# Altium footprint library Micron.PcbLib: 2 footprints
Each footprint in its own frame and in the unit in brackets; x right, y up, seen from the top. Pads: shape width x height; smd on the part's side, far side on the other; paste and mask are expansions set on the pad; w line width, h text height; cw(c..) or ccw(c..) is an arc to the next point about the centre after c.
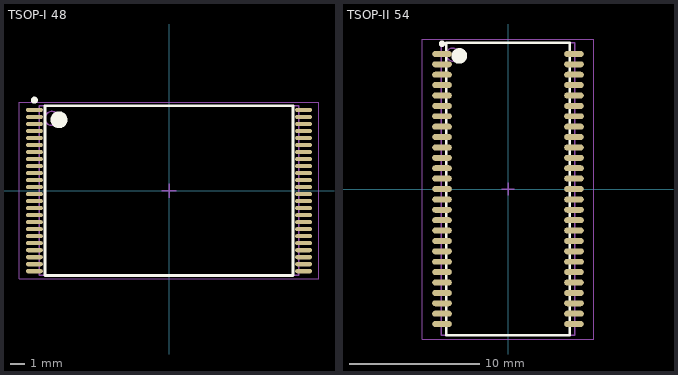
[diagram p0: the footprints below, top view; thin cyan lines are the x and y axes]

## TSOP-I 48 [mm] "TSSOP, 48-Leads, Body 12.00x18.40mm, Pitch 0.50mm, IPC Medium Density"
height 1.2
pads (48):
  oval 1.2x0.3 smd: 1(-9.6,5.75) 2(-9.6,5.25) 3(-9.6,4.75) 4(-9.6,4.25) 5(-9.6,3.75) 6(-9.6,3.25) 7(-9.6,2.75) 8(-9.6,2.25) 9(-9.6,1.75) 10(-9.6,1.25) 11(-9.6,0.75) 12(-9.6,0.25) 13(-9.6,-0.25) 14(-9.6,-0.75) 15(-9.6,-1.25) 16(-9.6,-1.75) 17(-9.6,-2.25) 18(-9.6,-2.75) 19(-9.6,-3.25) 20(-9.6,-3.75) 21(-9.6,-4.25) 22(-9.6,-4.75) 23(-9.6,-5.25) 24(-9.6,-5.75) 25(9.6,-5.75) 26(9.6,-5.25) 27(9.6,-4.75) 28(9.6,-4.25) 29(9.6,-3.75) 30(9.6,-3.25) 31(9.6,-2.75) 32(9.6,-2.25) 33(9.6,-1.75) 34(9.6,-1.25) 35(9.6,-0.75) 36(9.6,-0.25) 37(9.6,0.25) 38(9.6,0.75) 39(9.6,1.25) 40(9.6,1.75) 41(9.6,2.25) 42(9.6,2.75) 43(9.6,3.25) 44(9.6,3.75) 45(9.6,4.25) 46(9.6,4.75) 47(9.6,5.25) 48(9.6,5.75)
Top Overlay:
  circle w0.25: c-9.6,6.45 r0.125
  circle w0.6: c-7.85,5.05 r0.3
  lines w0.2: -8.85,-6.05 -8.85,6.05 8.85,6.05 8.85,-6.05 -8.85,-6.05
Mechanical 13:
  circle w0.1: c-8.35,5.15 r0.5
  lines w0.1: -9.25,-6.05 -9.25,6.05 9.25,6.05 9.25,-6.05 -9.25,-6.05
Mechanical 15:
  lines w0.05: -10.7,-6.3 -10.7,6.3 10.7,6.3 10.7,-6.3 -10.7,-6.3
  lines w0.1: -0.5,0 0.5,0 ; 0,-0.5 0,0.5
3D body: height 1.2, standoff 0.1, extent -9.25,-6.05 9.25,6.05

## TSOP-II 54 [mm] "TSOP, 54-Leads, Body 22.41x10.16mm, Pitch 0.80mm, IPC Medium Density"
height 1
pads (54):
  oval 1.51x0.458 smd: 1(-5.08,10.4) 2(-5.08,9.6) 3(-5.08,8.8) 4(-5.08,8) 5(-5.08,7.2) 6(-5.08,6.4) 7(-5.08,5.6) 8(-5.08,4.8) 9(-5.08,4) 10(-5.08,3.2) 11(-5.08,2.4) 12(-5.08,1.6) 13(-5.08,0.8) 14(-5.08,0) 15(-5.08,-0.8) 16(-5.08,-1.6) 17(-5.08,-2.4) 18(-5.08,-3.2) 19(-5.08,-4) 20(-5.08,-4.8) 21(-5.08,-5.6) 22(-5.08,-6.4) 23(-5.08,-7.2) 24(-5.08,-8) 25(-5.08,-8.8) 26(-5.08,-9.6) 27(-5.08,-10.4) 28(5.08,-10.4) 29(5.08,-9.6) 30(5.08,-8.8) 31(5.08,-8) 32(5.08,-7.2) 33(5.08,-6.4) 34(5.08,-5.6) 35(5.08,-4.8) 36(5.08,-4) 37(5.08,-3.2) 38(5.08,-2.4) 39(5.08,-1.6) 40(5.08,-0.8) 41(5.08,0) 42(5.08,0.8) 43(5.08,1.6) 44(5.08,2.4) 45(5.08,3.2) 46(5.08,4) 47(5.08,4.8) 48(5.08,5.6) 49(5.08,6.4) 50(5.08,7.2) 51(5.08,8) 52(5.08,8.8) 53(5.08,9.6) 54(5.08,10.4)
Top Overlay:
  circle w0.6: c-3.75,10.25 r0.3
  circle w0.25: c-5.08,11.179 r0.125
  lines w0.2: -4.75,-11.25 4.75,-11.25 4.75,11.25 -4.75,11.25 -4.75,-11.25
Mechanical 13:
  circle w0.1: c-4.25,10.35 r0.5
  lines w0.1: -5.15,-11.25 5.15,-11.25 5.15,11.25 -5.15,11.25 -5.15,-11.25
Mechanical 15:
  lines w0.05: -6.6,-11.55 6.6,-11.55 6.6,11.55 -6.6,11.55 -6.6,-11.55
  lines w0.1: -0.5,0 0.5,0 ; 0,-0.5 0,0.5
3D body: height 1, standoff 0.1, extent -5.15,-11.25 5.15,11.25